# EAGLE library part JOYSTICK (library Joystick)
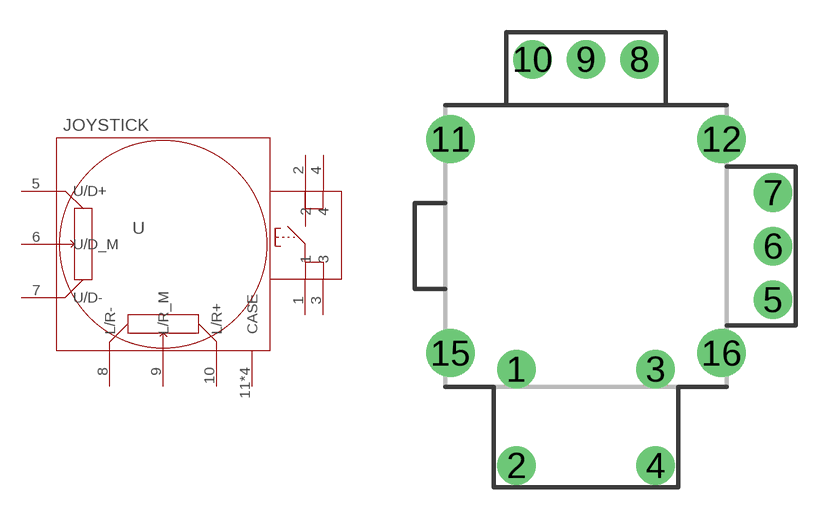
[diagram p0: symbol with the pads of RKJXV1224005; footprint RKJXV1224005]

Designator prefix -

## JOYSTICK  [RKJXV1224005]
1  1
2  2
3  3
4  4
5  U/D+
6  U/D_M
7  U/D-
8  L/R-
9  L/R_M
10  L/R+
11  CASE
12  CASE
15  CASE
16  CASE

## Footprint RKJXV1224005 (pad centres in mm)
RKJXV1224005
drill 1.2 pad 1.8: 1 -3.25,-5.75; 2 -3.25,-10.25; 3 3.25,-5.75; 4 3.25,-10.25; 5 8.73,-2.5; 6 8.73,0; 7 8.73,2.5; 8 2.5,8.73; 9 0,8.73; 10 -2.5,8.73
drill 1.5 pad 2.25: 11 -6.325,5; 12 6.325,5; 15 -6.325,-5; 16 6.325,-5